# Altium footprint library MCP1799-3302H_DB.PcbLib: 1 footprints
Each footprint in its own frame and in the unit in brackets; x right, y up, seen from the top. Pads: shape width x height; smd on the part's side, far side on the other; paste and mask are expansions set on the pad; w line width, h text height; cw(c..) or ccw(c..) is an arc to the next point about the centre after c.
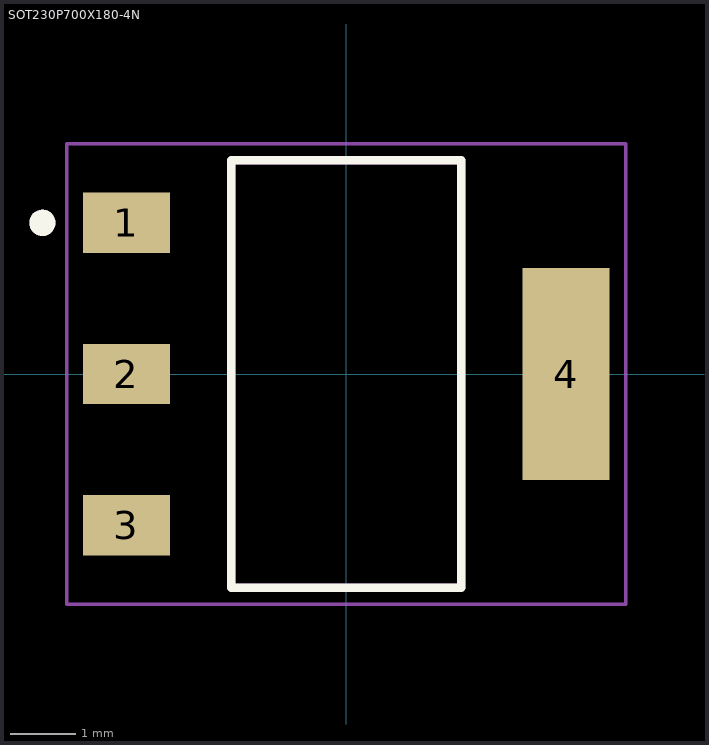
[diagram p0: the footprint, top view; thin cyan lines are the x and y axes]

## SOT230P700X180-4N [mm]
pads (4):
  rect 1.32x0.92 smd: 1(-3.345,2.3) 2(-3.345,0) 3(-3.345,-2.3)
  rect 1.32x3.23 smd: 4(3.345,0)
Top Overlay:
  circle w0.2: c-4.624,2.3 r0.1
  lines w0.127: -1.753,-3.253 1.753,-3.253 1.753,3.253 -1.753,3.253 -1.753,-3.253
Mechanical 13:
  circle w0.2: c-4.624,2.3 r0.1
  lines w0.127: -1.753,-3.253 1.753,-3.253 1.753,3.253 -1.753,3.253 -1.753,-3.253
Mechanical 15:
  lines w0.05: -4.255,-3.502 4.255,-3.502 4.255,3.502 -4.255,3.502 -4.255,-3.502